# Altium schematic symbol library Net_Tie_Sch.SchLib: 2 symbols
Pins are listed as number, name and electrical type; pins without a type are passive.

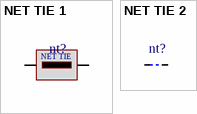
[diagram p0: symbols NET TIE 1 to NET TIE 2]

## NET TIE 1
designator nt?  (net tie, no BOM)
footprint 0.3mm
pins: 1, 2
text: NET TIE

## NET TIE 2
designator nt?  (net tie, no BOM)
footprint 0.3mm
pins: 1, 2